# EAGLE library part SST26WF064CT-104I/TD (library Memory)
IC FLASH 64M SPI 104MHZ 24TBGA Manufacturer's datasheet <http://ww1.microchip.com/downloads/en/DeviceDoc/SST26WF064C-1.8V-64-Mbit-Serial-Quad-I-O-SQI-Flash-Memory-Data-Sheet-DS20005430C.pdf>
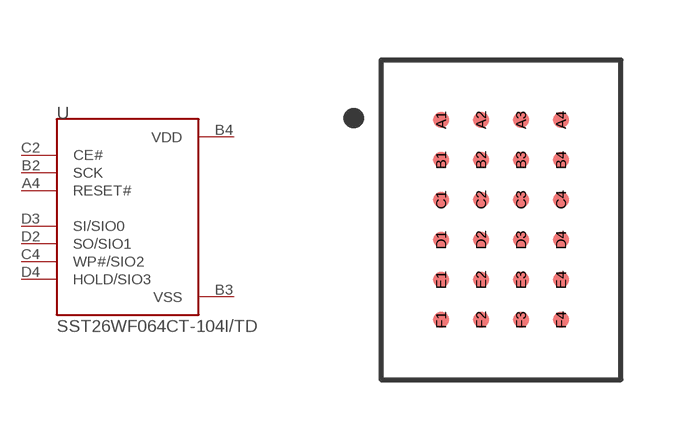
[diagram p20: symbol with the pads of TBGA24; footprint TBGA24]

Designator prefix U

## SST26WF064CT-104I/TD (CREATED_BY: PCBLayout.com; DIGIKEY_PARTNO: SST26WF064CT-104I/TDCT-ND; MANUFACTURER: Microchip Technology; MPN: SST26WF064CT-104I/TD; PACKAGE: TBGA-24)  [TBGA24]
A4  RESET#  in
B2  SCK  in
B3  VSS  pwr
B4  VDD  pwr
C2  CE#  in
C4  WP#/SIO2
D2  SO/SIO1
D3  SI/SIO0
D4  HOLD/SIO3

## Footprint TBGA24 (pad centres in mm)
smd 0.4 x 0.4: A1 -1.5,2.5; A2 -0.5,2.5; A3 0.5,2.5; A4 1.5,2.5; B1 -1.5,1.5; B2 -0.5,1.5; B3 0.5,1.5; B4 1.5,1.5; C1 -1.5,0.5; C2 -0.5,0.5; C3 0.5,0.5; C4 1.5,0.5; D1 -1.5,-0.5; D2 -0.5,-0.5; D3 0.5,-0.5; D4 1.5,-0.5; E1 -1.5,-1.5; E2 -0.5,-1.5; E3 0.5,-1.5; E4 1.5,-1.5; F1 -1.5,-2.5; F2 -0.5,-2.5; F3 0.5,-2.5; F4 1.5,-2.5